# EAGLE library part THS3202_DGK_8 (library Texas Instruments)
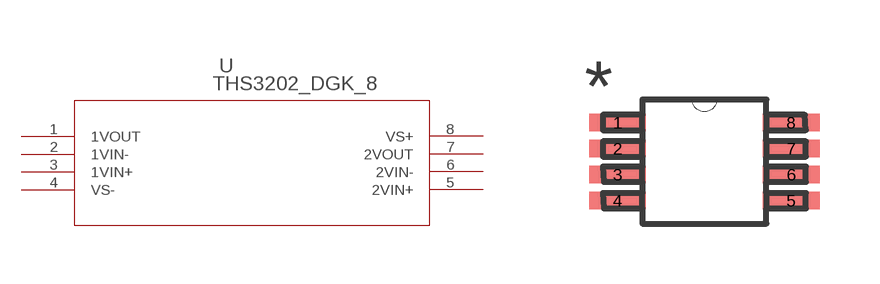
[diagram p16: symbol with the pads of DGK8; footprint DGK8]

Designator prefix U

## THS3202_DGK_8 (DATASHEETURL: http://www.ti.com/lit/gpn/THS3202; DESCRIPTION: 2GHz Current Feedback Amplifier; FAMILY_NAME: CURRENT FEEDBACK; GENERIC_PART_NUMBER: THS3202; INDUSTRY_STD_PKG_TYPE: MSOP; MANUFACTURER: Texas Instruments; MANUFACTURER_PART_NUMBER: ths3202_dgk_8; PACKAGE_DESIGNATOR: DGK; PIN_COUNT: 8; VENDOR: Texas Instruments)  [DGK8]
1  1VOUT  out
2  1VIN-  in
3  1VIN+  in
4  VS-  pwr
5  2VIN+  in
6  2VIN-  in
7  2VOUT  out
8  VS+  pwr

## Footprint DGK8 (pad centres in mm)
smd 1.422 x 0.432: 1 -2.172,0.975; 2 -2.172,0.325; 3 -2.172,-0.325; 4 -2.172,-0.975; 5 2.172,-0.975; 6 2.172,-0.325; 7 2.172,0.325; 8 2.172,0.975